# EAGLE library part HEADER-2X5 (library - Jins eagle lbr)
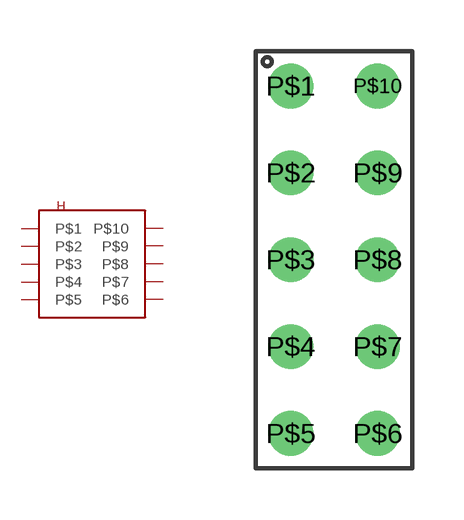
[diagram p20: symbol with the pads of PIN-5X2; footprint PIN-5X2]

Designator prefix H

## HEADER-2X5  [PIN-5X2]
P$1  P$1
P$2  P$2
P$3  P$3
P$4  P$4
P$5  P$5
P$6  P$6
P$7  P$7
P$8  P$8
P$9  P$9
P$10  P$10

## Footprint PIN-5X2 (pad centres in mm)
drill 0.8: P$1 -1.27,2.54; P$2 -1.27,0; P$3 -1.27,-2.54; P$4 -1.27,-5.08; P$5 -1.27,-7.62; P$6 1.27,-7.62; P$7 1.27,-5.08; P$8 1.27,-2.54; P$9 1.27,0; P$10 1.27,2.54